# Altium schematic symbol library MomentaryButton.SchLib: 1 symbol
Pins are listed as number, name and electrical type; pins without a type are passive.

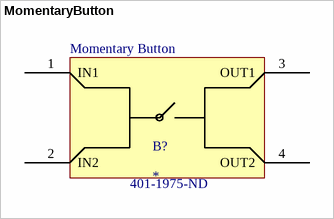
[diagram p0: symbol MomentaryButton]

## MomentaryButton
designator B?  DigiKey Part Number: 401-1975-ND
footprint MomentaryButton
pins: 1 IN1, 2 IN2, 3 OUT1, 4 OUT2
text: Momentary Button